# Altium schematic symbol library MiCore.SchLib: 7 symbols
Pins are listed as number, name and electrical type; pins without a type are passive.

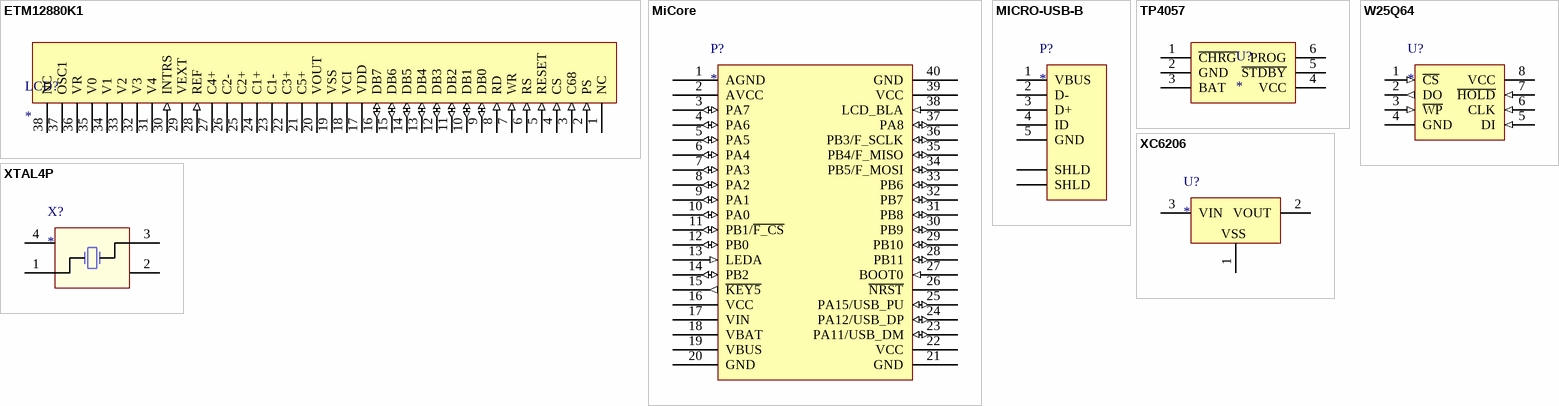
[diagram p0: symbols ETM12880K1 to XTAL4P]

## ETM12880K1
designator LCD?
LCD, 主控TL0350
footprint TL0350_38P
pins: 1 NC (hiz), 2 PS (in), 3 C68 (in), 4 CS (in), 5 RESET (in), 6 RS (in), 7 WR (in), 8 RD (in), 9 DB0 (io), 10 DB1 (io), 11 DB2 (io), 12 DB3 (io), 13 DB4 (io), 14 DB5 (io), 15 DB6 (io), 16 DB7 (io), 17 VDD (power), 18 VCI (power), 19 VSS (power), 20 VOUT, 21 C5+, 22 C3+, 23 C1-, 24 C1+, 25 C2+, 26 C2-, 27 C4+, 28 REF (in), 29 VEXT, 30 INTRS (in), 31 V4, 32 V3, 33 V2, 34 V1, 35 V0, 36 VR, 37 OSC1, 38 NC (hiz)

## MiCore
designator P?
MiCore核心板
footprint MICORE (MiCore核心板封装)
pins: 1 AGND (power), 2 AVCC (power), 3 PA7 (io), 4 PA6 (io), 5 PA5 (io), 6 PA4 (io), 7 PA3 (io), 8 PA2 (io), 9 PA1 (io), 10 PA0 (io), 11 PB1/~{F_CS} (io), 12 PB0 (io), 13 LEDA (in), 14 PB2 (io), 15 ~{KEY5} (out), 16 VCC (power), 17 VIN (power), 18 VBAT (power), 19 VBUS (power), 20 GND (power), 21 GND (power), 22 VCC (power), 23 PA11/USB_DM (io), 24 PA12/USB_DP (io), 25 PA15/USB_PU (io), 26 ~{NRST} (oc), 27 BOOT0 (in), 28 PB11 (io), 29 PB10 (io), 30 PB9 (io), 31 PB8 (io), 32 PB7 (io), 33 PB6 (io), 34 PB5/F_MOSI (io), 35 PB4/F_MISO (io), 36 PB3/F_SCLK (io), 37 PA8 (io), 38 LCD_BLA (in), 39 VCC (power), 40 GND (power)

## MICRO-USB-B
designator P?
MicroUSB母座
footprint MICRO-USB-B (MicroUSB贴片母座)
pins: 1 VBUS (power), 2 D-, 3 D+, 4 ID, 5 GND (power), 6 SHLD, 7 SHLD

## TP4057
designator U?
锂电池充电IC
footprint SOT26A-6N
pins: 1 ~{CHRG} (oc), 2 GND (power), 3 BAT, 4 VCC (power), 5 ~{STDBY} (oc), 6 PROG

## W25Q64
designator U?
SPI Flash
footprint SO8W (SOP8宽体208mil)
pins: 1 ~{CS} (in), 2 DO (out), 3 ~{WP} (in), 4 GND (power), 5 DI (in), 6 CLK (in), 7 ~{HOLD} (in), 8 VCC (power)

## XC6206
designator U?
LDO-3.3V
footprint SOT-23
pins: 1 GND (power), 2 VOUT (power), 3 VIN (power)
text: VSS

## XTAL4P
designator X?
4脚贴片无源晶振
footprint XTAL_5032_4P (4脚5mm*3.2mm贴片晶振)
pins: 1 OSC1, 2 OSC2, 3, 4